# Altium integrated library Analog Devices Operational Amplifiers.IntLib: 2102 symbols (part 52 of 70)
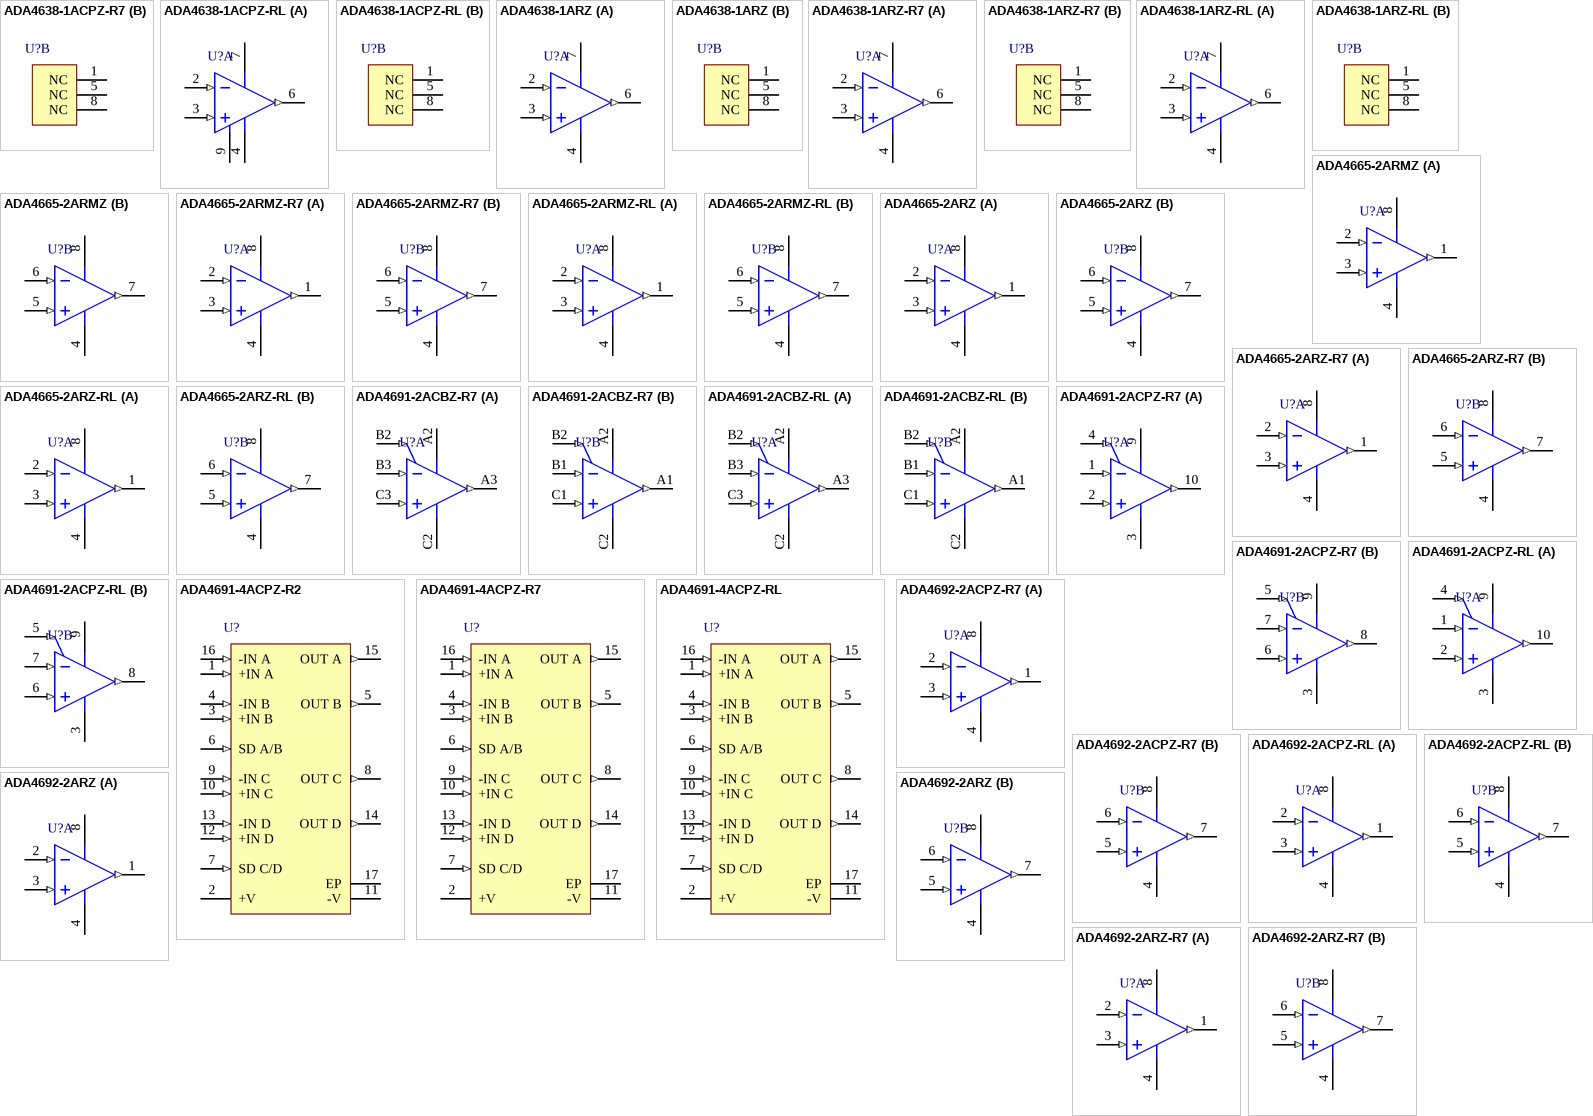
[diagram p165: symbols ADA4638-1ACPZ-R7 to ADA4692-2ARZ-R7]

## ADA4691-4ACPZ-R2
designator U?
Quad Channel Low Power Operational Amplifier, 3.6 MHz BW, 1.3 V/us SR, Industrial, 16-pin QFN (CP-16-22), Reel; Generic Part Number: ADA4691-4; Manufacturer: Analog Devices; PartNumber: ADA4691-4ACPZ-R2; Amplifiers Per Package: 4; Input Bias Current: 500fA; Input Offset Voltage: 500uV; Iq/Amp: 180uA; Packing: Reel, 250; Small Signal Bandwidth: 3.6MHz; V Span Max: 5V; V Span Min: 2.7V; DatasheetVersion: Rev. D; PackageVersion: 08-16-2010-E; PackageReference: CP-16-22; PackageDescription: 16-Pin Lead Frame Chip Scale Package, Body 3 x 3 mm, Pitch 0.5 mm; Supplier 1: Digi-Key; Supplier Part Number 1: ADA4691-4ACPZ-R2TR-ND; Supplier 2: Digi-Key; Supplier Part Number 2: ADA4691-4ACPZ-R2CT-ND; Supplier 3: Digi-Key; Supplier Part Number 3: ADA4691-4ACPZ-R2DKR-ND; Supplier 4: Farnell; Supplier Part Number 4: 1786682; Slew Rate: 1.3V/us; Mounting Technology: Surface Mount; Code_JEDEC: MO-220-WEED-6; ComponentLink1Description: Manufacturer URL; ComponentLink1URL: http://www.analog.com/en/index.html; ComponentLink2Description: Datasheet; ComponentLink2URL: http://www.analog.com/static/imported-files/data_sheets/ADA4691-2_4691-4_4692-2_4692-4.pdf; ComponentLink3Description: Package Specification; ComponentLink3URL: http://www.analog.com/static/imported-files/packages/PKG_PDF/LFCSP(CP)/CP-16/CP_16_22.pdf
footprint ADI-CP-16-22_N (QFN, 16-Leads, Body 3x3mm, Pitch 0.5mm, Thermal Pad 1.6x1.6mm, IPC Medium Density)
footprint ADI-CP-16-22_L (QFN, 16-Leads, Body 3x3mm, Pitch 0.5mm, Thermal Pad 1.6x1.6mm, IPC High Density)
footprint ADI-CP-16-22_M (QFN, 16-Leads, Body 3x3mm, Pitch 0.5mm, Thermal Pad 1.6x1.6mm, IPC Low Density)
pins: 1 +IN A (in), 2 +V (power), 3 +IN B (in), 4 -IN B (in), 5 OUT B (out), 6 SD A/B (in), 7 SD C/D (in), 8 OUT C (out), 9 -IN C (in), 10 +IN C (in), 11 -V (power), 12 +IN D (in), 13 -IN D (in), 14 OUT D (out), 15 OUT A (out), 16 -IN A (in), 17 EP (power) "IT IS RECOMMENDED THAT THE EXPOSEDPAD BE CONNCECTEDTO V-."

## ADA4691-4ACPZ-R7
designator U?
Quad Channel Low Power Operational Amplifier, 3.6 MHz BW, 1.3 V/us SR, Industrial, 16-pin QFN (CP-16-22), Reel; Generic Part Number: ADA4691-4; Manufacturer: Analog Devices; PartNumber: ADA4691-4ACPZ-R7; Amplifiers Per Package: 4; Input Bias Current: 500fA; Input Offset Voltage: 500uV; Iq/Amp: 180uA; Small Signal Bandwidth: 3.6MHz; V Span Max: 5V; V Span Min: 2.7V; DatasheetVersion: Rev. D; PackageVersion: 08-16-2010-E; PackageReference: CP-16-22; PackageDescription: 16-Pin Lead Frame Chip Scale Package, Body 3 x 3 mm, Pitch 0.5 mm; Supplier 1: Digi-Key; Supplier Part Number 1: ADA4691-4ACPZ-R7-ND; Supplier 2: Farnell; Supplier Part Number 2: 1827382; Supplier 3: Newark; Supplier Part Number 3: 58R3858; Packing: Reel, 1500; Slew Rate: 1.3V/us; Mounting Technology: Surface Mount; Code_JEDEC: MO-220-WEED-6; ComponentLink1Description: Manufacturer URL; ComponentLink1URL: http://www.analog.com/en/index.html; ComponentLink2Description: Datasheet; ComponentLink2URL: http://www.analog.com/static/imported-files/data_sheets/ADA4691-2_4691-4_4692-2_4692-4.pdf; ComponentLink3Description: Package Specification; ComponentLink3URL: http://www.analog.com/static/imported-files/packages/PKG_PDF/LFCSP(CP)/CP-16/CP_16_22.pdf
footprint ADI-CP-16-22_N (QFN, 16-Leads, Body 3x3mm, Pitch 0.5mm, Thermal Pad 1.6x1.6mm, IPC Medium Density)
footprint ADI-CP-16-22_L (QFN, 16-Leads, Body 3x3mm, Pitch 0.5mm, Thermal Pad 1.6x1.6mm, IPC High Density)
footprint ADI-CP-16-22_M (QFN, 16-Leads, Body 3x3mm, Pitch 0.5mm, Thermal Pad 1.6x1.6mm, IPC Low Density)
pins: 1 +IN A (in), 2 +V (power), 3 +IN B (in), 4 -IN B (in), 5 OUT B (out), 6 SD A/B (in), 7 SD C/D (in), 8 OUT C (out), 9 -IN C (in), 10 +IN C (in), 11 -V (power), 12 +IN D (in), 13 -IN D (in), 14 OUT D (out), 15 OUT A (out), 16 -IN A (in), 17 EP (power) "IT IS RECOMMENDED THAT THE EXPOSEDPAD BE CONNCECTEDTO V-."

## ADA4691-4ACPZ-RL
designator U?
Quad Channel Low Power Operational Amplifier, 3.6 MHz BW, 1.3 V/us SR, Industrial, 16-pin QFN (CP-16-22), Reel; Generic Part Number: ADA4691-4; Manufacturer: Analog Devices; PartNumber: ADA4691-4ACPZ-RL; Amplifiers Per Package: 4; Input Bias Current: 500fA; Input Offset Voltage: 500uV; Iq/Amp: 180uA; Small Signal Bandwidth: 3.6MHz; V Span Max: 5V; V Span Min: 2.7V; DatasheetVersion: Rev. D; PackageVersion: 08-16-2010-E; PackageReference: CP-16-22; PackageDescription: 16-Pin Lead Frame Chip Scale Package, Body 3 x 3 mm, Pitch 0.5 mm; Supplier 1: Digi-Key; Supplier Part Number 1: ADA4691-4ACPZ-RL-ND; Supplier 2: Newark; Supplier Part Number 2: 58R3856; Packing: Reel, 5000; Slew Rate: 1.3V/us; Mounting Technology: Surface Mount; Code_JEDEC: MO-220-WEED-6; ComponentLink1Description: Manufacturer URL; ComponentLink1URL: http://www.analog.com/en/index.html; ComponentLink2Description: Datasheet; ComponentLink2URL: http://www.analog.com/static/imported-files/data_sheets/ADA4691-2_4691-4_4692-2_4692-4.pdf; ComponentLink3Description: Package Specification; ComponentLink3URL: http://www.analog.com/static/imported-files/packages/PKG_PDF/LFCSP(CP)/CP-16/CP_16_22.pdf
footprint ADI-CP-16-22_N (QFN, 16-Leads, Body 3x3mm, Pitch 0.5mm, Thermal Pad 1.6x1.6mm, IPC Medium Density)
footprint ADI-CP-16-22_L (QFN, 16-Leads, Body 3x3mm, Pitch 0.5mm, Thermal Pad 1.6x1.6mm, IPC High Density)
footprint ADI-CP-16-22_M (QFN, 16-Leads, Body 3x3mm, Pitch 0.5mm, Thermal Pad 1.6x1.6mm, IPC Low Density)
pins: 1 +IN A (in), 2 +V (power), 3 +IN B (in), 4 -IN B (in), 5 OUT B (out), 6 SD A/B (in), 7 SD C/D (in), 8 OUT C (out), 9 -IN C (in), 10 +IN C (in), 11 -V (power), 12 +IN D (in), 13 -IN D (in), 14 OUT D (out), 15 OUT A (out), 16 -IN A (in), 17 EP (power) "IT IS RECOMMENDED THAT THE EXPOSEDPAD BE CONNCECTEDTO V-."

## ADA4692-2ACPZ-R7
designator U?
Double Channel Low Power Operational Amplifier, 3.6 MHz BW, 1.3 V/us SR, Industrial, 8-pin SON (CP-8-6), Reel; Generic Part Number: ADA4692-2; Manufacturer: Analog Devices; PartNumber: ADA4692-2ACPZ-R7; Amplifiers Per Package: 2; Input Bias Current: 500fA; Input Offset Voltage: 500uV; Iq/Amp: 180uA; Small Signal Bandwidth: 3.6MHz; V Span Max: 5V; V Span Min: 2.7V; DatasheetVersion: Rev. D; PackageVersion: 041508-A; PackageReference: CP-8-6; PackageDescription: 8-Pin Lead Frame Chip Scale Package, Body 2 x 2 mm, Pitch 0.5 mm; Supplier 1: Digi-Key; Supplier Part Number 1: ADA4692-2ACPZ-R7TR-ND; Supplier 2: Digi-Key; Supplier Part Number 2: ADA4692-2ACPZ-R7CT-ND; Supplier 3: Digi-Key; Supplier Part Number 3: ADA4692-2ACPZ-R7DKR-ND; Supplier 4: Newark; Supplier Part Number 4: 26R2409; Slew Rate: 1.3V/us; Mounting Technology: Surface Mount; ComponentLink1Description: Manufacturer URL; ComponentLink1URL: http://www.analog.com/en/index.html; ComponentLink2Description: Datasheet; ComponentLink2URL: http://www.analog.com/static/imported-files/data_sheets/ADA4691-2_4691-4_4692-2_4692-4.pdf; ComponentLink3Description: Package Specification; ComponentLink3URL: http://www.analog.com/static/imported-files/packages/PKG_PDF/LFCSP(CP)/CP_8_6.pdf
footprint ADI-CP-8-6_V (SON, 8-Leads, Body 2x2mm, Pitch 0.5mm)
pins on every part: 4 -V (power), 8 +V (power)
part A pins: 1 OUT A (out), 2 -IN A (in), 3 +IN A (in)
part B pins: 5 +IN B (in), 6 -IN B (in), 7 OUT B (out)

## ADA4692-2ACPZ-RL
designator U?
Double Channel Low Power Operational Amplifier, 3.6 MHz BW, 1.3 V/us SR, Industrial, 8-pin SON (CP-8-6), Reel; Generic Part Number: ADA4692-2; Manufacturer: Analog Devices; PartNumber: ADA4692-2ACPZ-RL; Amplifiers Per Package: 2; Input Bias Current: 500fA; Input Offset Voltage: 500uV; Iq/Amp: 180uA; Small Signal Bandwidth: 3.6MHz; V Span Max: 5V; V Span Min: 2.7V; DatasheetVersion: Rev. D; PackageVersion: 041508-A; PackageReference: CP-8-6; PackageDescription: 8-Pin Lead Frame Chip Scale Package, Body 2 x 2 mm, Pitch 0.5 mm; Supplier 1: Digi-Key; Supplier Part Number 1: ADA4692-2ACPZ-RL-ND; Supplier 2: Newark; Supplier Part Number 2: 26R2407; Slew Rate: 1.3V/us; Mounting Technology: Surface Mount; ComponentLink1Description: Manufacturer URL; ComponentLink1URL: http://www.analog.com/en/index.html; ComponentLink2Description: Datasheet; ComponentLink2URL: http://www.analog.com/static/imported-files/data_sheets/ADA4691-2_4691-4_4692-2_4692-4.pdf; ComponentLink3Description: Package Specification; ComponentLink3URL: http://www.analog.com/static/imported-files/packages/PKG_PDF/LFCSP(CP)/CP_8_6.pdf
footprint ADI-CP-8-6_V (SON, 8-Leads, Body 2x2mm, Pitch 0.5mm)
pins on every part: 4 -V (power), 8 +V (power)
part A pins: 1 OUT A (out), 2 -IN A (in), 3 +IN A (in)
part B pins: 5 +IN B (in), 6 -IN B (in), 7 OUT B (out)

## ADA4692-2ARZ
designator U?
Double Channel Low Power Operational Amplifier, 3.6 MHz BW, 1.3 V/us SR, Industrial, 8-pin SOIC (R-8), Tube; Generic Part Number: ADA4692-2; Manufacturer: Analog Devices; PartNumber: ADA4692-2ARZ; Amplifiers Per Package: 2; Input Bias Current: 500fA; Input Offset Voltage: 500uV; Iq/Amp: 180uA; Small Signal Bandwidth: 3.6MHz; V Span Max: 5V; V Span Min: 2.7V; DatasheetVersion: Rev. D; PackageVersion: 060506-A; PackageReference: R-8; PackageDescription: 8-Pin Standard Small Outline Package, Body 3.9 x 4.9 mm, Pitch 1.27 mm; Supplier 1: Digi-Key; Supplier Part Number 1: ADA4692-2ARZ-ND; Supplier 2: Farnell; Supplier Part Number 2: 1827383; Supplier 3: Newark; Supplier Part Number 3: 05R6523; Slew Rate: 1.3V/us; Mounting Technology: Surface Mount; Code_JEDEC: MS-012-AA; ComponentLink1Description: Manufacturer URL; ComponentLink1URL: http://www.analog.com/en/index.html; ComponentLink2Description: Datasheet; ComponentLink2URL: http://www.analog.com/static/imported-files/data_sheets/ADA4691-2_4691-4_4692-2_4692-4.pdf; ComponentLink3Description: Package Specification; ComponentLink3URL: http://www.analog.com/static/imported-files/packages/PKG_PDF/SOIC_Narrow%20(R)/R_8.pdf
footprint ADI-R-8_N (SOIC, 8-Leads, Body 4.9x3.9mm, Pitch 1.27mm, IPC Medium Density)
footprint ADI-R-8_L (SOIC, 8-Leads, Body 4.9x3.9mm, Pitch 1.27mm, IPC High Density)
footprint ADI-R-8_M (SOIC, 8-Leads, Body 4.9x3.9mm, Pitch 1.27mm, IPC Low Density)
pins on every part: 4 -V (power), 8 +V (power)
part A pins: 1 OUT A (out), 2 -IN A (in), 3 +IN A (in)
part B pins: 5 +IN B (in), 6 -IN B (in), 7 OUT B (out)

## ADA4692-2ARZ-R7
designator U?
Double Channel Low Power Operational Amplifier, 3.6 MHz BW, 1.3 V/us SR, Industrial, 8-pin SOIC (R-8), Reel; Generic Part Number: ADA4692-2; Manufacturer: Analog Devices; PartNumber: ADA4692-2ARZ-R7; Amplifiers Per Package: 2; Input Bias Current: 500fA; Input Offset Voltage: 500uV; Iq/Amp: 180uA; Small Signal Bandwidth: 3.6MHz; V Span Max: 5V; V Span Min: 2.7V; DatasheetVersion: Rev. D; PackageVersion: 060506-A; PackageReference: R-8; PackageDescription: 8-Pin Standard Small Outline Package, Body 3.9 x 4.9 mm, Pitch 1.27 mm; Supplier 1: Digi-Key; Supplier Part Number 1: ADA4692-2ARZ-R7TR-ND; Supplier 2: Digi-Key; Supplier Part Number 2: ADA4692-2ARZ-R7CT-ND; Supplier 3: Digi-Key; Supplier Part Number 3: ADA4692-2ARZ-R7DKR-ND; Supplier 4: Newark; Supplier Part Number 4: 05R6525; Slew Rate: 1.3V/us; Mounting Technology: Surface Mount; Code_JEDEC: MS-012-AA; ComponentLink1Description: Manufacturer URL; ComponentLink1URL: http://www.analog.com/en/index.html; ComponentLink2Description: Datasheet; ComponentLink2URL: http://www.analog.com/static/imported-files/data_sheets/ADA4691-2_4691-4_4692-2_4692-4.pdf; ComponentLink3Description: Package Specification; ComponentLink3URL: http://www.analog.com/static/imported-files/packages/PKG_PDF/SOIC_Narrow%20(R)/R_8.pdf
footprint ADI-R-8_N (SOIC, 8-Leads, Body 4.9x3.9mm, Pitch 1.27mm, IPC Medium Density)
footprint ADI-R-8_L (SOIC, 8-Leads, Body 4.9x3.9mm, Pitch 1.27mm, IPC High Density)
footprint ADI-R-8_M (SOIC, 8-Leads, Body 4.9x3.9mm, Pitch 1.27mm, IPC Low Density)
pins on every part: 4 -V (power), 8 +V (power)
part A pins: 1 OUT A (out), 2 -IN A (in), 3 +IN A (in)
part B pins: 5 +IN B (in), 6 -IN B (in), 7 OUT B (out)

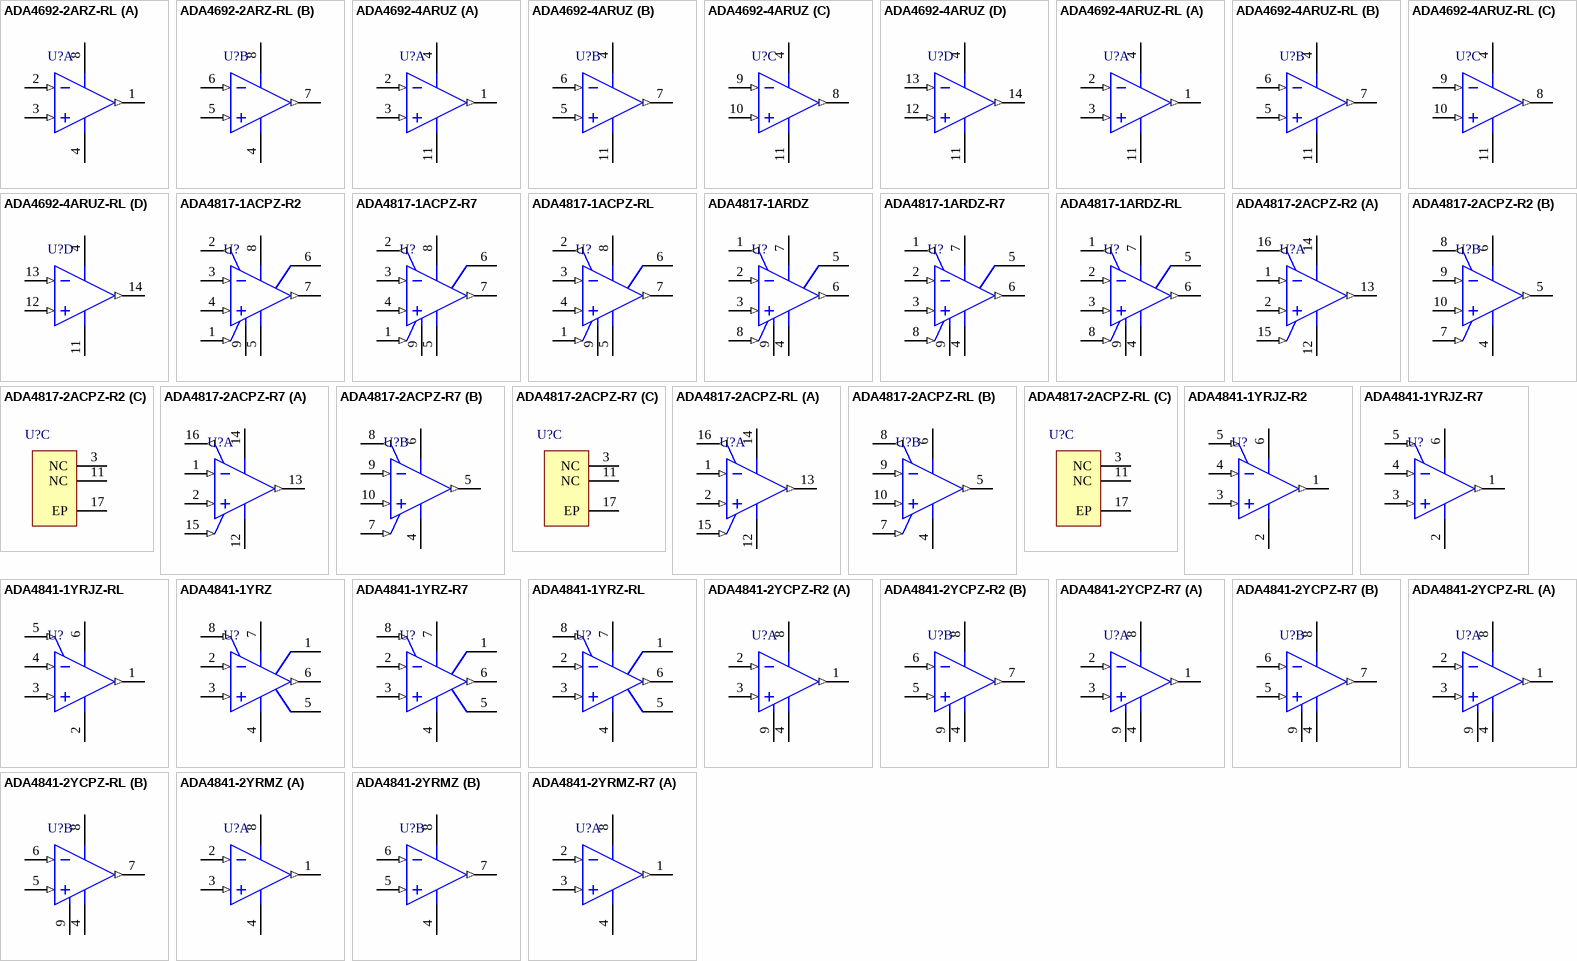
[diagram p82: symbols ADA4692-2ARZ-RL to ADA4841-2YRMZ-R7]

## ADA4692-2ARZ-RL
designator U?
Double Channel Low Power Operational Amplifier, 3.6 MHz BW, 1.3 V/us SR, Industrial, 8-pin SOIC (R-8), Reel; Generic Part Number: ADA4692-2; Manufacturer: Analog Devices; PartNumber: ADA4692-2ARZ-RL; Amplifiers Per Package: 2; Input Bias Current: 500fA; Input Offset Voltage: 500uV; Iq/Amp: 180uA; Small Signal Bandwidth: 3.6MHz; V Span Max: 5V; V Span Min: 2.7V; DatasheetVersion: Rev. D; PackageVersion: 060506-A; PackageReference: R-8; PackageDescription: 8-Pin Standard Small Outline Package, Body 3.9 x 4.9 mm, Pitch 1.27 mm; Supplier 1: Digi-Key; Supplier Part Number 1: ADA4692-2ARZ-RL-ND; Slew Rate: 1.3V/us; Mounting Technology: Surface Mount; Code_JEDEC: MS-012-AA; ComponentLink1Description: Manufacturer URL; ComponentLink1URL: http://www.analog.com/en/index.html; ComponentLink2Description: Datasheet; ComponentLink2URL: http://www.analog.com/static/imported-files/data_sheets/ADA4691-2_4691-4_4692-2_4692-4.pdf; ComponentLink3Description: Package Specification; ComponentLink3URL: http://www.analog.com/static/imported-files/packages/PKG_PDF/SOIC_Narrow%20(R)/R_8.pdf
footprint ADI-R-8_N (SOIC, 8-Leads, Body 4.9x3.9mm, Pitch 1.27mm, IPC Medium Density)
footprint ADI-R-8_L (SOIC, 8-Leads, Body 4.9x3.9mm, Pitch 1.27mm, IPC High Density)
footprint ADI-R-8_M (SOIC, 8-Leads, Body 4.9x3.9mm, Pitch 1.27mm, IPC Low Density)
pins on every part: 4 -V (power), 8 +V (power)
part A pins: 1 OUT A (out), 2 -IN A (in), 3 +IN A (in)
part B pins: 5 +IN B (in), 6 -IN B (in), 7 OUT B (out)

## ADA4692-4ARUZ
designator U?
Quad Channel Low Power Operational Amplifier, 3.6 MHz BW, 1.3 V/us SR, Industrial, 14-pin SOP (RU-14), Tube; Generic Part Number: ADA4692-4; Manufacturer: Analog Devices; PartNumber: ADA4692-4ARUZ; Amplifiers Per Package: 4; Input Bias Current: 500fA; Input Offset Voltage: 500uV; Iq/Amp: 180uA; Small Signal Bandwidth: 3.6MHz; V Span Max: 5V; V Span Min: 2.7V; DatasheetVersion: Rev. D; PackageReference: RU-14; PackageDescription: 14-Pin Thin Shrink Small Outline Package, Body 5 x 4.4 mm, Pitch 0.65 mm; Supplier 1: Digi-Key; Supplier Part Number 1: ADA4692-4ARUZ-ND; Supplier 2: Farnell; Supplier Part Number 2: 1827393RL; Supplier 3: Newark; Supplier Part Number 3: 51R0647; Slew Rate: 1.3V/us; Mounting Technology: Surface Mount; Code_JEDEC: MO-153AB-1; ComponentLink1Description: Manufacturer URL; ComponentLink1URL: http://www.analog.com/en/index.html; ComponentLink2Description: Datasheet; ComponentLink2URL: http://www.analog.com/static/imported-files/data_sheets/ADA4691-2_4691-4_4692-2_4692-4.pdf; ComponentLink3Description: Package Specification; ComponentLink3URL: http://www.analog.com/static/imported-files/packages/36057385283879153717235186773RU14.pdf
footprint ADI-RU-14_N (SOP, 14-Leads, Body 5x4.4mm, Pitch 0.65mm, IPC Medium Density)
footprint ADI-RU-14_L (SOP, 14-Leads, Body 5x4.4mm, Pitch 0.65mm, IPC High Density)
footprint ADI-RU-14_M (SOP, 14-Leads, Body 5x4.4mm, Pitch 0.65mm, IPC Low Density)
pins on every part: 4 +V (power), 11 -V (power)
part A pins: 1 OUT A (out), 2 -IN A (in), 3 +IN A (in)
part B pins: 5 +IN B (in), 6 -IN B (in), 7 OUT B (out)
part C pins: 8 OUT C (out), 9 -IN C (in), 10 +IN C (in)
part D pins: 12 +IN D (in), 13 -IN D (in), 14 OUT D (out)

## ADA4692-4ARUZ-RL
designator U?
Quad Channel Low Power Operational Amplifier, 3.6 MHz BW, 1.3 V/us SR, Industrial, 14-pin SOP (RU-14), Reel; Generic Part Number: ADA4692-4; Manufacturer: Analog Devices; PartNumber: ADA4692-4ARUZ-RL; Amplifiers Per Package: 4; Input Bias Current: 500fA; Input Offset Voltage: 500uV; Iq/Amp: 180uA; Small Signal Bandwidth: 3.6MHz; V Span Max: 5V; V Span Min: 2.7V; DatasheetVersion: Rev. D; PackageReference: RU-14; PackageDescription: 14-Pin Thin Shrink Small Outline Package, Body 5 x 4.4 mm, Pitch 0.65 mm; Supplier 1: Digi-Key; Supplier Part Number 1: ADA4692-4ARUZ-RL-ND; Slew Rate: 1.3V/us; Mounting Technology: Surface Mount; Code_JEDEC: MO-153AB-1; ComponentLink1Description: Manufacturer URL; ComponentLink1URL: http://www.analog.com/en/index.html; ComponentLink2Description: Datasheet; ComponentLink2URL: http://www.analog.com/static/imported-files/data_sheets/ADA4691-2_4691-4_4692-2_4692-4.pdf; ComponentLink3Description: Package Specification; ComponentLink3URL: http://www.analog.com/static/imported-files/packages/36057385283879153717235186773RU14.pdf
footprint ADI-RU-14_N (SOP, 14-Leads, Body 5x4.4mm, Pitch 0.65mm, IPC Medium Density)
footprint ADI-RU-14_L (SOP, 14-Leads, Body 5x4.4mm, Pitch 0.65mm, IPC High Density)
footprint ADI-RU-14_M (SOP, 14-Leads, Body 5x4.4mm, Pitch 0.65mm, IPC Low Density)
pins on every part: 4 +V (power), 11 -V (power)
part A pins: 1 OUT A (out), 2 -IN A (in), 3 +IN A (in)
part B pins: 5 +IN B (in), 6 -IN B (in), 7 OUT B (out)
part C pins: 8 OUT C (out), 9 -IN C (in), 10 +IN C (in)
part D pins: 12 +IN D (in), 13 -IN D (in), 14 OUT D (out)

## ADA4817-1ACPZ-R2
designator U?
Single Channel Low Noise Operational Amplifier, 1.05 GHz BW, 870 V/us SR, Industrial, 8-pin QFN (CP-8-2), Reel; Generic Part Number: ADA4817-1; Manufacturer: Analog Devices; PartNumber: ADA4817-1ACPZ-R2; Amplifiers Per Package: 1; Input Bias Current: 2pA; Input Offset Voltage: 2mV; Iq/Amp: 21mA; V Span Max: 10V; V Span Min: 5V; DatasheetVersion: Rev. A; PackageVersion: 061507-B; PackageReference: CP-8-2; PackageDescription: 8-Pin Lead Frame Chip Scale Package, Body 3 x 3 mm, Pitch 0.5 mm; Supplier 1: Farnell; Supplier Part Number 1: 1786053; Supplier 2: Farnell; Supplier Part Number 2: 1786053RL; Supplier 3: Newark; Supplier Part Number 3: 34P2968; Slew Rate: 870V/us; Small Signal Bandwidth: 1.05GHz; Mounting Technology: Surface Mount; ComponentLink1Description: Manufacturer URL; ComponentLink1URL: http://www.analog.com/en/index.html; ComponentLink2Description: Datasheet; ComponentLink2URL: http://www.analog.com/static/imported-files/data_sheets/ADA4817-1_4817-2.pdf; ComponentLink3Description: Package Specification; ComponentLink3URL: http://www.analog.com/static/imported-files/packages/56953322593982CP_8_2.pdf
footprint ADI-CP-8-2_N (QFN, 8-Leads, Body 3x3mm, Pitch 0.5mm, Thermal Pad 1.45X1.74mm, IPC Medium Density)
footprint ADI-CP-8-2_L (QFN, 8-Leads, Body 3x3mm, Pitch 0.5mm, Thermal Pad 1.45X1.74mm, IPC High Density)
footprint ADI-CP-8-2_M (QFN, 8-Leads, Body 3x3mm, Pitch 0.5mm, Thermal Pad 1.45X1.74mm, IPC Low Density)
pins: 1 ~{PD} (in) "Power-Down. Do not leave floating.", 2 FB (out) "Feedback Pin.", 3 -IN (in) "Inverting Input.", 4 +IN (in) "Noninverting Input.", 5 -VS (power) "Negative Supply.", 6 NC "No Connect.", 7 OUT (out) "Output.", 8 +VS (power) "Positive Supply.", 9 EP "Exposed Pad. Can be connected to GND, -VS plane, or left floating."

## ADA4817-1ACPZ-R7
designator U?
Single Channel Low Noise Operational Amplifier, 1.05 GHz BW, 870 V/us SR, Industrial, 8-pin QFN (CP-8-2), Reel; Generic Part Number: ADA4817-1; Manufacturer: Analog Devices; PartNumber: ADA4817-1ACPZ-R7; Amplifiers Per Package: 1; Input Bias Current: 2pA; Input Offset Voltage: 2mV; Iq/Amp: 21mA; V Span Max: 10V; V Span Min: 5V; DatasheetVersion: Rev. A; PackageVersion: 061507-B; PackageReference: CP-8-2; PackageDescription: 8-Pin Lead Frame Chip Scale Package, Body 3 x 3 mm, Pitch 0.5 mm; Supplier 1: Digi-Key; Supplier Part Number 1: ADA4817-1ACPZ-R7TR-ND; Supplier 2: Digi-Key; Supplier Part Number 2: ADA4817-1ACPZ-R7CT-ND; Supplier 3: Digi-Key; Supplier Part Number 3: ADA4817-1ACPZ-R7DKR-ND; Supplier 4: Newark; Supplier Part Number 4: 34P2969; Slew Rate: 870V/us; Small Signal Bandwidth: 1.05GHz; Mounting Technology: Surface Mount; ComponentLink1Description: Manufacturer URL; ComponentLink1URL: http://www.analog.com/en/index.html; ComponentLink2Description: Datasheet; ComponentLink2URL: http://www.analog.com/static/imported-files/data_sheets/ADA4817-1_4817-2.pdf; ComponentLink3Description: Package Specification; ComponentLink3URL: http://www.analog.com/static/imported-files/packages/56953322593982CP_8_2.pdf
footprint ADI-CP-8-2_N (QFN, 8-Leads, Body 3x3mm, Pitch 0.5mm, Thermal Pad 1.45X1.74mm, IPC Medium Density)
footprint ADI-CP-8-2_L (QFN, 8-Leads, Body 3x3mm, Pitch 0.5mm, Thermal Pad 1.45X1.74mm, IPC High Density)
footprint ADI-CP-8-2_M (QFN, 8-Leads, Body 3x3mm, Pitch 0.5mm, Thermal Pad 1.45X1.74mm, IPC Low Density)
pins: 1 ~{PD} (in) "Power-Down. Do not leave floating.", 2 FB (out) "Feedback Pin.", 3 -IN (in) "Inverting Input.", 4 +IN (in) "Noninverting Input.", 5 -VS (power) "Negative Supply.", 6 NC "No Connect.", 7 OUT (out) "Output.", 8 +VS (power) "Positive Supply.", 9 EP "Exposed Pad. Can be connected to GND, -VS plane, or left floating."

## ADA4817-1ACPZ-RL
designator U?
Single Channel Low Noise Operational Amplifier, 1.05 GHz BW, 870 V/us SR, Industrial, 8-pin QFN (CP-8-2), Reel; Generic Part Number: ADA4817-1; Manufacturer: Analog Devices; PartNumber: ADA4817-1ACPZ-RL; Amplifiers Per Package: 1; Input Bias Current: 2pA; Input Offset Voltage: 2mV; Iq/Amp: 21mA; V Span Max: 10V; V Span Min: 5V; DatasheetVersion: Rev. A; PackageVersion: 061507-B; PackageReference: CP-8-2; PackageDescription: 8-Pin Lead Frame Chip Scale Package, Body 3 x 3 mm, Pitch 0.5 mm; Supplier 1: Digi-Key; Supplier Part Number 1: ADA4817-1ACPZ-RL-ND; Slew Rate: 870V/us; Small Signal Bandwidth: 1.05GHz; Mounting Technology: Surface Mount; ComponentLink1Description: Manufacturer URL; ComponentLink1URL: http://www.analog.com/en/index.html; ComponentLink2Description: Datasheet; ComponentLink2URL: http://www.analog.com/static/imported-files/data_sheets/ADA4817-1_4817-2.pdf; ComponentLink3Description: Package Specification; ComponentLink3URL: http://www.analog.com/static/imported-files/packages/56953322593982CP_8_2.pdf
footprint ADI-CP-8-2_N (QFN, 8-Leads, Body 3x3mm, Pitch 0.5mm, Thermal Pad 1.45X1.74mm, IPC Medium Density)
footprint ADI-CP-8-2_L (QFN, 8-Leads, Body 3x3mm, Pitch 0.5mm, Thermal Pad 1.45X1.74mm, IPC High Density)
footprint ADI-CP-8-2_M (QFN, 8-Leads, Body 3x3mm, Pitch 0.5mm, Thermal Pad 1.45X1.74mm, IPC Low Density)
pins: 1 ~{PD} (in) "Power-Down. Do not leave floating.", 2 FB (out) "Feedback Pin.", 3 -IN (in) "Inverting Input.", 4 +IN (in) "Noninverting Input.", 5 -VS (power) "Negative Supply.", 6 NC "No Connect.", 7 OUT (out) "Output.", 8 +VS (power) "Positive Supply.", 9 EP "Exposed Pad. Can be connected to GND, -VS plane, or left floating."

## ADA4817-1ARDZ
designator U?
Single Channel Low Noise Operational Amplifier, 1.05 GHz BW, 870 V/us SR, Industrial, 8-pin SOIC (RD-8-1), Tube; Generic Part Number: ADA4817-1; Manufacturer: Analog Devices; PartNumber: ADA4817-1ARDZ; Amplifiers Per Package: 1; Input Bias Current: 2pA; Input Offset Voltage: 2mV; Iq/Amp: 21mA; V Span Max: 10V; V Span Min: 5V; DatasheetVersion: Rev. A; PackageVersion: 060506-A; PackageReference: RD-8-1; PackageDescription: 8-Pin Standard Small Outline Package, Body 4.9 x 3.9 mm, Pitch 1.27 mm; Supplier 1: Digi-Key; Supplier Part Number 1: ADA4817-1ARDZ-ND; Supplier 2: Farnell; Supplier Part Number 2: 1786054; Supplier 3: Newark; Supplier Part Number 3: 71P7793; Slew Rate: 870V/us; Small Signal Bandwidth: 1.05GHz; Mounting Technology: Surface Mount; Code_JEDEC: MS-012-AA; ComponentLink1Description: Manufacturer URL; ComponentLink1URL: http://www.analog.com/en/index.html; ComponentLink2Description: Datasheet; ComponentLink2URL: http://www.analog.com/static/imported-files/data_sheets/ADA4817-1_4817-2.pdf; ComponentLink3Description: Package Specification; ComponentLink3URL: http://www.analog.com/static/imported-files/packages/PKG_PDF/SOIC_ED(RD)/RD_8_1.pdf
footprint ADI-RD-8-1_N (SOIC, 8-Leads, Body 4.9x3.9mm, Pitch 1.27mm, Thermal Pad 2.29x2.29mm, IPC Medium Density)
footprint ADI-RD-8-1_L (SOIC, 8-Leads, Body 4.9x3.9mm, Pitch 1.27mm, Thermal Pad 2.29x2.29mm, IPC High Density)
footprint ADI-RD-8-1_M (SOIC, 8-Leads, Body 4.9x3.9mm, Pitch 1.27mm, Thermal Pad 2.29x2.29mm, IPC Low Density)
pins: 1 FB (out) "Feedback Pin.", 2 -IN (in) "Inverting Input.", 3 +IN (in) "Noninverting Input.", 4 -VS (power) "Negative Supply.", 5 NC "No Connect.", 6 OUT (out) "Output.", 7 +VS (power) "Positive Supply.", 8 ~{PD} (in) "Power-Down. Do not leave floating.", 9 EP "Exposed Pad. Can be connected to GND, -VS plane, or left floating."

## ADA4817-1ARDZ-R7
designator U?
Single Channel Low Noise Operational Amplifier, 1.05 GHz BW, 870 V/us SR, Industrial, 8-pin SOIC (RD-8-1), Reel; Generic Part Number: ADA4817-1; Manufacturer: Analog Devices; PartNumber: ADA4817-1ARDZ-R7; Amplifiers Per Package: 1; Input Bias Current: 2pA; Input Offset Voltage: 2mV; Iq/Amp: 21mA; V Span Max: 10V; V Span Min: 5V; DatasheetVersion: Rev. A; PackageVersion: 060506-A; PackageReference: RD-8-1; PackageDescription: 8-Pin Standard Small Outline Package, Body 4.9 x 3.9 mm, Pitch 1.27 mm; Supplier 1: Digi-Key; Supplier Part Number 1: ADA4817-1ARDZ-R7TR-ND; Supplier 2: Digi-Key; Supplier Part Number 2: ADA4817-1ARDZ-R7CT-ND; Supplier 3: Digi-Key; Supplier Part Number 3: ADA4817-1ARDZ-R7DKR-ND; Slew Rate: 870V/us; Small Signal Bandwidth: 1.05GHz; Mounting Technology: Surface Mount; Code_JEDEC: MS-012-AA; ComponentLink1Description: Manufacturer URL; ComponentLink1URL: http://www.analog.com/en/index.html; ComponentLink2Description: Datasheet; ComponentLink2URL: http://www.analog.com/static/imported-files/data_sheets/ADA4817-1_4817-2.pdf; ComponentLink3Description: Package Specification; ComponentLink3URL: http://www.analog.com/static/imported-files/packages/PKG_PDF/SOIC_ED(RD)/RD_8_1.pdf
footprint ADI-RD-8-1_N (SOIC, 8-Leads, Body 4.9x3.9mm, Pitch 1.27mm, Thermal Pad 2.29x2.29mm, IPC Medium Density)
footprint ADI-RD-8-1_L (SOIC, 8-Leads, Body 4.9x3.9mm, Pitch 1.27mm, Thermal Pad 2.29x2.29mm, IPC High Density)
footprint ADI-RD-8-1_M (SOIC, 8-Leads, Body 4.9x3.9mm, Pitch 1.27mm, Thermal Pad 2.29x2.29mm, IPC Low Density)
pins: 1 FB (out) "Feedback Pin.", 2 -IN (in) "Inverting Input.", 3 +IN (in) "Noninverting Input.", 4 -VS (power) "Negative Supply.", 5 NC "No Connect.", 6 OUT (out) "Output.", 7 +VS (power) "Positive Supply.", 8 ~{PD} (in) "Power-Down. Do not leave floating.", 9 EP "Exposed Pad. Can be connected to GND, -VS plane, or left floating."

## ADA4817-1ARDZ-RL
designator U?
Single Channel Low Noise Operational Amplifier, 1.05 GHz BW, 870 V/us SR, Industrial, 8-pin SOIC (RD-8-1), Reel; Generic Part Number: ADA4817-1; Manufacturer: Analog Devices; PartNumber: ADA4817-1ARDZ-RL; Amplifiers Per Package: 1; Input Bias Current: 2pA; Input Offset Voltage: 2mV; Iq/Amp: 21mA; V Span Max: 10V; V Span Min: 5V; DatasheetVersion: Rev. A; PackageVersion: 060506-A; PackageReference: RD-8-1; PackageDescription: 8-Pin Standard Small Outline Package, Body 4.9 x 3.9 mm, Pitch 1.27 mm; Supplier 1: Digi-Key; Supplier Part Number 1: ADA4817-1ARDZ-RL-ND; Slew Rate: 870V/us; Small Signal Bandwidth: 1.05GHz; Mounting Technology: Surface Mount; Code_JEDEC: MS-012-AA; ComponentLink1Description: Manufacturer URL; ComponentLink1URL: http://www.analog.com/en/index.html; ComponentLink2Description: Datasheet; ComponentLink2URL: http://www.analog.com/static/imported-files/data_sheets/ADA4817-1_4817-2.pdf; ComponentLink3Description: Package Specification; ComponentLink3URL: http://www.analog.com/static/imported-files/packages/PKG_PDF/SOIC_ED(RD)/RD_8_1.pdf
footprint ADI-RD-8-1_N (SOIC, 8-Leads, Body 4.9x3.9mm, Pitch 1.27mm, Thermal Pad 2.29x2.29mm, IPC Medium Density)
footprint ADI-RD-8-1_L (SOIC, 8-Leads, Body 4.9x3.9mm, Pitch 1.27mm, Thermal Pad 2.29x2.29mm, IPC High Density)
footprint ADI-RD-8-1_M (SOIC, 8-Leads, Body 4.9x3.9mm, Pitch 1.27mm, Thermal Pad 2.29x2.29mm, IPC Low Density)
pins: 1 FB (out) "Feedback Pin.", 2 -IN (in) "Inverting Input.", 3 +IN (in) "Noninverting Input.", 4 -VS (power) "Negative Supply.", 5 NC "No Connect.", 6 OUT (out) "Output.", 7 +VS (power) "Positive Supply.", 8 ~{PD} (in) "Power-Down. Do not leave floating.", 9 EP "Exposed Pad. Can be connected to GND, -VS plane, or left floating."

## ADA4817-2ACPZ-R2
designator U?
Double Channel Low Noise Operational Amplifier, 1.05 GHz BW, 870 V/us SR, Industrial, 16-pin QFN (CP-16-4), Reel; Generic Part Number: ADA4817-2; Manufacturer: Analog Devices; PartNumber: ADA4817-2ACPZ-R2; Amplifiers Per Package: 2; Input Bias Current: 2pA; Input Offset Voltage: 2mV; Iq/Amp: 21mA; V Span Max: 10V; V Span Min: 5V; DatasheetVersion: Rev. A; PackageVersion: 010606-0; PackageReference: CP-16-4; PackageDescription: 16-Pin Lead Frame Chip Scale Package, Body 4 x 4 mm, Pitch 0.65 mm; Supplier 1: Farnell; Supplier Part Number 1: 1786055; Supplier 2: Farnell; Supplier Part Number 2: 1786055RL; Supplier 3: Newark; Supplier Part Number 3: 34P2971; Slew Rate: 870V/us; Small Signal Bandwidth: 1.05GHz; Mounting Technology: Surface Mount; Code_JEDEC: MO-220-VGGC; ComponentLink1Description: Manufacturer URL; ComponentLink1URL: http://www.analog.com/en/index.html; ComponentLink2Description: Datasheet; ComponentLink2URL: http://www.analog.com/static/imported-files/data_sheets/ADA4817-1_4817-2.pdf; ComponentLink3Description: Package Specification; ComponentLink3URL: http://www.analog.com/static/imported-files/packages/46009454504174339653421710019CP_16_4.pdf; ComponentLink4Description: Reference Circuit; ComponentLink4URL: http://www.analog.com/en/all-operational-amplifiers-op-amps/operational-amplifiers-op-amps/ada4817-2/products/product.html#product-recommendations
footprint CP-16-4_N (QFN, 16-Leads, Body 4x4mm, Pitch 0.65mm, Thermal Pad 2.1x2.1mm, IPC Medium Density)
footprint CP-16-4_L (QFN, 16-Leads, Body 4x4mm, Pitch 0.65mm, Thermal Pad 2.1x2.1mm, IPC High Density)
footprint CP-16-4_M (QFN, 16-Leads, Body 4x4mm, Pitch 0.65mm, Thermal Pad 2.1x2.1mm, IPC Low Density)
part A pins: 1 -IN 1 (in) "Inverting Input 1.", 2 +IN 1 (in) "Noninverting Input 1.", 12 -VS 1 (power) "Negative Supply 1.", 13 OUT 1 (out) "Output 1.", 14 +VS 1 (power) "Positive Supply 1.", 15 ~{PD1} (in) "Power-Down 1. Do not leave floating.", 16 FB1 (out) "Feedback Pin 1."
part B pins: 4 -VS 2 (power) "Negative Supply 2.", 5 OUT 2 (out) "Output 2.", 6 +VS 2 (power) "Positive Supply 2.", 7 ~{PD2} (in) "Power-Down 2. Do not leave floating.", 8 FB2 (out) "Feedback Pin 2.", 9 -IN 2 (in) "Inverting Input 2.", 10 +IN 2 (in) "Noninverting Input 2."
part C pins: 3 NC "No Connect.", 11 NC "No Connect.", 17 EP "Exposed Pad. Can be connected to GND, -VS plane, or left floating."

## ADA4817-2ACPZ-R7
designator U?
Double Channel Low Noise Operational Amplifier, 1.05 GHz BW, 870 V/us SR, Industrial, 16-pin QFN (CP-16-4), Reel; Generic Part Number: ADA4817-2; Manufacturer: Analog Devices; PartNumber: ADA4817-2ACPZ-R7; Amplifiers Per Package: 2; Input Bias Current: 2pA; Input Offset Voltage: 2mV; Iq/Amp: 21mA; V Span Max: 10V; V Span Min: 5V; DatasheetVersion: Rev. A; PackageVersion: 010606-0; PackageReference: CP-16-4; PackageDescription: 16-Pin Lead Frame Chip Scale Package, Body 4 x 4 mm, Pitch 0.65 mm; Supplier 1: Digi-Key; Supplier Part Number 1: ADA4817-2ACPZ-R7TR-ND; Supplier 2: Digi-Key; Supplier Part Number 2: ADA4817-2ACPZ-R7CT-ND; Supplier 3: Digi-Key; Supplier Part Number 3: ADA4817-2ACPZ-R7DKR-ND; Supplier 4: Newark; Supplier Part Number 4: 34P2972; Slew Rate: 870V/us; Small Signal Bandwidth: 1.05GHz; Mounting Technology: Surface Mount; Code_JEDEC: MO-220-VGGC; ComponentLink1Description: Manufacturer URL; ComponentLink1URL: http://www.analog.com/en/index.html; ComponentLink2Description: Datasheet; ComponentLink2URL: http://www.analog.com/static/imported-files/data_sheets/ADA4817-1_4817-2.pdf; ComponentLink3Description: Package Specification; ComponentLink3URL: http://www.analog.com/static/imported-files/packages/46009454504174339653421710019CP_16_4.pdf; ComponentLink4Description: Reference Circuit; ComponentLink4URL: http://www.analog.com/en/all-operational-amplifiers-op-amps/operational-amplifiers-op-amps/ada4817-2/products/product.html#product-recommendations
footprint CP-16-4_N (QFN, 16-Leads, Body 4x4mm, Pitch 0.65mm, Thermal Pad 2.1x2.1mm, IPC Medium Density)
footprint CP-16-4_L (QFN, 16-Leads, Body 4x4mm, Pitch 0.65mm, Thermal Pad 2.1x2.1mm, IPC High Density)
footprint CP-16-4_M (QFN, 16-Leads, Body 4x4mm, Pitch 0.65mm, Thermal Pad 2.1x2.1mm, IPC Low Density)
part A pins: 1 -IN 1 (in) "Inverting Input 1.", 2 +IN 1 (in) "Noninverting Input 1.", 12 -VS 1 (power) "Negative Supply 1.", 13 OUT 1 (out) "Output 1.", 14 +VS 1 (power) "Positive Supply 1.", 15 ~{PD1} (in) "Power-Down 1. Do not leave floating.", 16 FB1 (out) "Feedback Pin 1."
part B pins: 4 -VS 2 (power) "Negative Supply 2.", 5 OUT 2 (out) "Output 2.", 6 +VS 2 (power) "Positive Supply 2.", 7 ~{PD2} (in) "Power-Down 2. Do not leave floating.", 8 FB2 (out) "Feedback Pin 2.", 9 -IN 2 (in) "Inverting Input 2.", 10 +IN 2 (in) "Noninverting Input 2."
part C pins: 3 NC "No Connect.", 11 NC "No Connect.", 17 EP "Exposed Pad. Can be connected to GND, -VS plane, or left floating."

## ADA4817-2ACPZ-RL
designator U?
Double Channel Low Noise Operational Amplifier, 1.05 GHz BW, 870 V/us SR, Industrial, 16-pin QFN (CP-16-4), Reel; Generic Part Number: ADA4817-2; Manufacturer: Analog Devices; PartNumber: ADA4817-2ACPZ-RL; Amplifiers Per Package: 2; Input Bias Current: 2pA; Input Offset Voltage: 2mV; Iq/Amp: 21mA; V Span Max: 10V; V Span Min: 5V; DatasheetVersion: Rev. A; PackageVersion: 010606-0; PackageReference: CP-16-4; PackageDescription: 16-Pin Lead Frame Chip Scale Package, Body 4 x 4 mm, Pitch 0.65 mm; Supplier 1: Digi-Key; Supplier Part Number 1: ADA4817-2ACPZ-RL-ND; Supplier 2: Newark; Supplier Part Number 2: 34P2970; Slew Rate: 870V/us; Small Signal Bandwidth: 1.05GHz; Mounting Technology: Surface Mount; Code_JEDEC: MO-220-VGGC; ComponentLink1Description: Manufacturer URL; ComponentLink1URL: http://www.analog.com/en/index.html; ComponentLink2Description: Datasheet; ComponentLink2URL: http://www.analog.com/static/imported-files/data_sheets/ADA4817-1_4817-2.pdf; ComponentLink3Description: Package Specification; ComponentLink3URL: http://www.analog.com/static/imported-files/packages/46009454504174339653421710019CP_16_4.pdf; ComponentLink4Description: Reference Circuit; ComponentLink4URL: http://www.analog.com/en/all-operational-amplifiers-op-amps/operational-amplifiers-op-amps/ada4817-2/products/product.html#product-recommendations
footprint CP-16-4_N (QFN, 16-Leads, Body 4x4mm, Pitch 0.65mm, Thermal Pad 2.1x2.1mm, IPC Medium Density)
footprint CP-16-4_L (QFN, 16-Leads, Body 4x4mm, Pitch 0.65mm, Thermal Pad 2.1x2.1mm, IPC High Density)
footprint CP-16-4_M (QFN, 16-Leads, Body 4x4mm, Pitch 0.65mm, Thermal Pad 2.1x2.1mm, IPC Low Density)
part A pins: 1 -IN 1 (in) "Inverting Input 1.", 2 +IN 1 (in) "Noninverting Input 1.", 12 -VS 1 (power) "Negative Supply 1.", 13 OUT 1 (out) "Output 1.", 14 +VS 1 (power) "Positive Supply 1.", 15 ~{PD1} (in) "Power-Down 1. Do not leave floating.", 16 FB1 (out) "Feedback Pin 1."
part B pins: 4 -VS 2 (power) "Negative Supply 2.", 5 OUT 2 (out) "Output 2.", 6 +VS 2 (power) "Positive Supply 2.", 7 ~{PD2} (in) "Power-Down 2. Do not leave floating.", 8 FB2 (out) "Feedback Pin 2.", 9 -IN 2 (in) "Inverting Input 2.", 10 +IN 2 (in) "Noninverting Input 2."
part C pins: 3 NC "No Connect.", 11 NC "No Connect.", 17 EP "Exposed Pad. Can be connected to GND, -VS plane, or left floating."

## ADA4841-1YRJZ-R2
designator U?
Single Channel Low Wide Band Noise Operational Amplifier, 80 MHz BW, 13 V/us SR, Industrial, 6-pin SOT23 (RJ-6), Reel; Generic Part Number: ADA4841-1; Manufacturer: Analog Devices; PartNumber: ADA4841-1YRJZ-R2; Amplifiers Per Package: 1; Input Bias Current: 3uA; Input Offset Voltage: 40uV; Iq/Amp: 1.5mA; Slew Rate: 13V/us; Small Signal Bandwidth: 80MHz; V Span Max: 12V; V Span Min: 2.7V; DatasheetVersion: Rev. E; PackageVersion: 121608-A; PackageReference: RJ-6; PackageDescription: 6-Pin Small Outline Transistor Package, Body 2.9 x 1.6 mm, Pitch 0.95 mm; Supplier 1: Farnell; Supplier Part Number 1: 1838874; Supplier 2: Newark; Supplier Part Number 2: 59K0892; Mounting Technology: Surface Mount; Code_JEDEC: MO-178-AB; ComponentLink1Description: Manufacturer URL; ComponentLink1URL: http://www.analog.com/en/index.html; ComponentLink2Description: Datasheet; ComponentLink2URL: http://www.analog.com/static/imported-files/data_sheets/ADA4841-1_4841-2.pdf; ComponentLink3Description: Package Specification; ComponentLink3URL: http://www.analog.com/static/imported-files/packages/PKG_PDF/SOT-23(RJ)/RJ_6.pdf; ComponentLink4Description: Reference Circuit; ComponentLink4URL: http://www.analog.com/en/all-operational-amplifiers-op-amps/operational-amplifiers-op-amps/ada4841-1/products/product.html#product-recommendations
footprint ADI-RJ-6_N (SOT23, 6-Leads, Body 2.9x1.6mm, Pitch 0.95mm, IPC Medium Density)
footprint ADI-RJ-6_L (SOT23, 6-Leads, Body 2.9x1.6mm, Pitch 0.95mm, IPC High Density)
footprint ADI-RJ-6_M (SOT23, 6-Leads, Body 2.9x1.6mm, Pitch 0.95mm, IPC Low Density)
pins: 1 VOUT (out), 2 -VS (power), 3 +IN (in), 4 -IN (in), 5 ~{POWER DOWN} (in), 6 +VS (power)

## ADA4841-1YRJZ-R7
designator U?
Single Channel Low Wide Band Noise Operational Amplifier, 80 MHz BW, 13 V/us SR, Industrial, 6-pin SOT23 (RJ-6), Reel; Generic Part Number: ADA4841-1; Manufacturer: Analog Devices; PartNumber: ADA4841-1YRJZ-R7; Amplifiers Per Package: 1; Input Bias Current: 3uA; Input Offset Voltage: 40uV; Iq/Amp: 1.5mA; Slew Rate: 13V/us; Small Signal Bandwidth: 80MHz; V Span Max: 12V; V Span Min: 2.7V; DatasheetVersion: Rev. E; PackageVersion: 121608-A; PackageReference: RJ-6; PackageDescription: 6-Pin Small Outline Transistor Package, Body 2.9 x 1.6 mm, Pitch 0.95 mm; Supplier 1: Digi-Key; Supplier Part Number 1: ADA4841-1YRJZ-R7TR-ND; Supplier 2: Digi-Key; Supplier Part Number 2: ADA4841-1YRJZ-R7CT-ND; Supplier 3: Digi-Key; Supplier Part Number 3: ADA4841-1YRJZ-R7DKR-ND; Supplier 4: Newark; Supplier Part Number 4: 59K0893; Mounting Technology: Surface Mount; Code_JEDEC: MO-178-AB; ComponentLink1Description: Manufacturer URL; ComponentLink1URL: http://www.analog.com/en/index.html; ComponentLink2Description: Datasheet; ComponentLink2URL: http://www.analog.com/static/imported-files/data_sheets/ADA4841-1_4841-2.pdf; ComponentLink3Description: Package Specification; ComponentLink3URL: http://www.analog.com/static/imported-files/packages/PKG_PDF/SOT-23(RJ)/RJ_6.pdf; ComponentLink4Description: Reference Circuit; ComponentLink4URL: http://www.analog.com/en/all-operational-amplifiers-op-amps/operational-amplifiers-op-amps/ada4841-1/products/product.html#product-recommendations
footprint ADI-RJ-6_N (SOT23, 6-Leads, Body 2.9x1.6mm, Pitch 0.95mm, IPC Medium Density)
footprint ADI-RJ-6_L (SOT23, 6-Leads, Body 2.9x1.6mm, Pitch 0.95mm, IPC High Density)
footprint ADI-RJ-6_M (SOT23, 6-Leads, Body 2.9x1.6mm, Pitch 0.95mm, IPC Low Density)
pins: 1 VOUT (out), 2 -VS (power), 3 +IN (in), 4 -IN (in), 5 ~{POWER DOWN} (in), 6 +VS (power)

## ADA4841-1YRJZ-RL
designator U?
Single Channel Low Wide Band Noise Operational Amplifier, 80 MHz BW, 13 V/us SR, Industrial, 6-pin SOT23 (RJ-6), Reel; Generic Part Number: ADA4841-1; Manufacturer: Analog Devices; PartNumber: ADA4841-1YRJZ-RL; Amplifiers Per Package: 1; Input Bias Current: 3uA; Input Offset Voltage: 40uV; Iq/Amp: 1.5mA; Slew Rate: 13V/us; Small Signal Bandwidth: 80MHz; V Span Max: 12V; V Span Min: 2.7V; DatasheetVersion: Rev. E; PackageVersion: 121608-A; PackageReference: RJ-6; PackageDescription: 6-Pin Small Outline Transistor Package, Body 2.9 x 1.6 mm, Pitch 0.95 mm; Supplier 1: Digi-Key; Supplier Part Number 1: ADA4841-1YRJZ-RL-ND; Mounting Technology: Surface Mount; Code_JEDEC: MO-178-AB; ComponentLink1Description: Manufacturer URL; ComponentLink1URL: http://www.analog.com/en/index.html; ComponentLink2Description: Datasheet; ComponentLink2URL: http://www.analog.com/static/imported-files/data_sheets/ADA4841-1_4841-2.pdf; ComponentLink3Description: Package Specification; ComponentLink3URL: http://www.analog.com/static/imported-files/packages/PKG_PDF/SOT-23(RJ)/RJ_6.pdf; ComponentLink4Description: Reference Circuit; ComponentLink4URL: http://www.analog.com/en/all-operational-amplifiers-op-amps/operational-amplifiers-op-amps/ada4841-1/products/product.html#product-recommendations
footprint ADI-RJ-6_N (SOT23, 6-Leads, Body 2.9x1.6mm, Pitch 0.95mm, IPC Medium Density)
footprint ADI-RJ-6_L (SOT23, 6-Leads, Body 2.9x1.6mm, Pitch 0.95mm, IPC High Density)
footprint ADI-RJ-6_M (SOT23, 6-Leads, Body 2.9x1.6mm, Pitch 0.95mm, IPC Low Density)
pins: 1 VOUT (out), 2 -VS (power), 3 +IN (in), 4 -IN (in), 5 ~{POWER DOWN} (in), 6 +VS (power)

## ADA4841-1YRZ
designator U?
Single Channel Low Wide Band Noise Operational Amplifier, 80 MHz BW, 13 V/us SR, Industrial, 8-pin SOIC (R-8), Tube; Generic Part Number: ADA4841-1; Manufacturer: Analog Devices; PartNumber: ADA4841-1YRZ; Amplifiers Per Package: 1; Input Bias Current: 3uA; Input Offset Voltage: 40uV; Iq/Amp: 1.5mA; Slew Rate: 13V/us; Small Signal Bandwidth: 80MHz; V Span Max: 12V; V Span Min: 2.7V; DatasheetVersion: Rev. E; PackageVersion: 060506-A; PackageReference: R-8; PackageDescription: 8-Pin Standard Small Outline Package, Body 3.9 x 4.9 mm, Pitch 1.27 mm; Mounting Technology: Surface Mount; Code_JEDEC: MS-012-AA; ComponentLink1Description: Manufacturer URL; ComponentLink1URL: http://www.analog.com/en/index.html; ComponentLink2Description: Datasheet; ComponentLink2URL: http://www.analog.com/static/imported-files/data_sheets/ADA4841-1_4841-2.pdf; ComponentLink3Description: Package Specification; ComponentLink3URL: http://www.analog.com/static/imported-files/packages/PKG_PDF/SOIC_Narrow%20(R)/R_8.pdf; ComponentLink4Description: Reference Circuit; ComponentLink4URL: http://www.analog.com/en/all-operational-amplifiers-op-amps/operational-amplifiers-op-amps/ada4841-1/products/product.html#product-recommendations
footprint ADI-R-8_N (SOIC, 8-Leads, Body 4.9x3.9mm, Pitch 1.27mm, IPC Medium Density)
footprint ADI-R-8_L (SOIC, 8-Leads, Body 4.9x3.9mm, Pitch 1.27mm, IPC High Density)
footprint ADI-R-8_M (SOIC, 8-Leads, Body 4.9x3.9mm, Pitch 1.27mm, IPC Low Density)
pins: 1 NC, 2 -IN (in), 3 +IN (in), 4 -VS (power), 5 NC, 6 VOUT (out), 7 +VS (power), 8 ~{POWER DOWN} (in)

## ADA4841-1YRZ-R7
designator U?
Single Channel Low Wide Band Noise Operational Amplifier, 80 MHz BW, 13 V/us SR, Industrial, 8-pin SOIC (R-8), Reel; Generic Part Number: ADA4841-1; Manufacturer: Analog Devices; PartNumber: ADA4841-1YRZ-R7; Amplifiers Per Package: 1; Input Bias Current: 3uA; Input Offset Voltage: 40uV; Iq/Amp: 1.5mA; Slew Rate: 13V/us; Small Signal Bandwidth: 80MHz; V Span Max: 12V; V Span Min: 2.7V; DatasheetVersion: Rev. E; PackageVersion: 060506-A; PackageReference: R-8; PackageDescription: 8-Pin Standard Small Outline Package, Body 3.9 x 4.9 mm, Pitch 1.27 mm; Supplier 1: Digi-Key; Supplier Part Number 1: ADA4841-1YRZ-R7TR-ND; Supplier 2: Digi-Key; Supplier Part Number 2: ADA4841-1YRZ-R7CT-ND; Supplier 3: Digi-Key; Supplier Part Number 3: ADA4841-1YRZ-R7DKR-ND; Supplier 4: Farnell; Supplier Part Number 4: 1838875; Supplier 5: Farnell; Supplier Part Number 5: 1838875RL; Supplier 6: Newark; Supplier Part Number 6: 59K0896; Mounting Technology: Surface Mount; Code_JEDEC: MS-012-AA; ComponentLink1Description: Manufacturer URL; ComponentLink1URL: http://www.analog.com/en/index.html; ComponentLink2Description: Datasheet; ComponentLink2URL: http://www.analog.com/static/imported-files/data_sheets/ADA4841-1_4841-2.pdf; ComponentLink3Description: Package Specification; ComponentLink3URL: http://www.analog.com/static/imported-files/packages/PKG_PDF/SOIC_Narrow%20(R)/R_8.pdf; ComponentLink4Description: Reference Circuit; ComponentLink4URL: http://www.analog.com/en/all-operational-amplifiers-op-amps/operational-amplifiers-op-amps/ada4841-1/products/product.html#product-recommendations
footprint ADI-R-8_N (SOIC, 8-Leads, Body 4.9x3.9mm, Pitch 1.27mm, IPC Medium Density)
footprint ADI-R-8_L (SOIC, 8-Leads, Body 4.9x3.9mm, Pitch 1.27mm, IPC High Density)
footprint ADI-R-8_M (SOIC, 8-Leads, Body 4.9x3.9mm, Pitch 1.27mm, IPC Low Density)
pins: 1 NC, 2 -IN (in), 3 +IN (in), 4 -VS (power), 5 NC, 6 VOUT (out), 7 +VS (power), 8 ~{POWER DOWN} (in)

## ADA4841-1YRZ-RL
designator U?
Single Channel Low Wide Band Noise Operational Amplifier, 80 MHz BW, 13 V/us SR, Industrial, 8-pin SOIC (R-8), Reel; Generic Part Number: ADA4841-1; Manufacturer: Analog Devices; PartNumber: ADA4841-1YRZ-RL; Amplifiers Per Package: 1; Input Bias Current: 3uA; Input Offset Voltage: 40uV; Iq/Amp: 1.5mA; Slew Rate: 13V/us; Small Signal Bandwidth: 80MHz; V Span Max: 12V; V Span Min: 2.7V; DatasheetVersion: Rev. E; PackageVersion: 060506-A; PackageReference: R-8; PackageDescription: 8-Pin Standard Small Outline Package, Body 3.9 x 4.9 mm, Pitch 1.27 mm; Supplier 1: Digi-Key; Supplier Part Number 1: ADA4841-1YRZ-RL-ND; Mounting Technology: Surface Mount; Code_JEDEC: MS-012-AA; ComponentLink1Description: Manufacturer URL; ComponentLink1URL: http://www.analog.com/en/index.html; ComponentLink2Description: Datasheet; ComponentLink2URL: http://www.analog.com/static/imported-files/data_sheets/ADA4841-1_4841-2.pdf; ComponentLink3Description: Package Specification; ComponentLink3URL: http://www.analog.com/static/imported-files/packages/PKG_PDF/SOIC_Narrow%20(R)/R_8.pdf; ComponentLink4Description: Reference Circuit; ComponentLink4URL: http://www.analog.com/en/all-operational-amplifiers-op-amps/operational-amplifiers-op-amps/ada4841-1/products/product.html#product-recommendations
footprint ADI-R-8_N (SOIC, 8-Leads, Body 4.9x3.9mm, Pitch 1.27mm, IPC Medium Density)
footprint ADI-R-8_L (SOIC, 8-Leads, Body 4.9x3.9mm, Pitch 1.27mm, IPC High Density)
footprint ADI-R-8_M (SOIC, 8-Leads, Body 4.9x3.9mm, Pitch 1.27mm, IPC Low Density)
pins: 1 NC, 2 -IN (in), 3 +IN (in), 4 -VS (power), 5 NC, 6 VOUT (out), 7 +VS (power), 8 ~{POWER DOWN} (in)

## ADA4841-2YCPZ-R2
designator U?
Double Channel Low Wide Band Noise Operational Amplifier, 80 MHz BW, 13 V/us SR, Industrial, 8-pin SON (CP-8-11), Reel; Generic Part Number: ADA4841-2; Manufacturer: Analog Devices; PartNumber: ADA4841-2YCPZ-R2; Amplifiers Per Package: 2; Input Bias Current: 3uA; Input Offset Voltage: 40uV; Iq/Amp: 1.5mA; Slew Rate: 13V/us; Small Signal Bandwidth: 80MHz; V Span Max: 12V; V Span Min: 2.7V; DatasheetVersion: Rev. E; PackageVersion: 01-24-2011-B; PackageReference: CP-8-11; PackageDescription: 8-Pin Lead Frame Chip Scale Package, Body 3 x 3 mm, Pitch 0.5 mm; Supplier 1: Digi-Key; Supplier Part Number 1: ADA4841-2YCPZ-R2CT-ND; Supplier 2: Digi-Key; Supplier Part Number 2: ADA4841-2YCPZ-R2DKR-ND; Mounting Technology: Surface Mount; Code_JEDEC: MO-229-WEED; ComponentLink1Description: Manufacturer URL; ComponentLink1URL: http://www.analog.com/en/index.html; ComponentLink2Description: Datasheet; ComponentLink2URL: http://www.analog.com/static/imported-files/data_sheets/ADA4841-1_4841-2.pdf; ComponentLink3Description: Package Specification; ComponentLink3URL: http://www.analog.com/static/imported-files/packages/PKG_PDF/LFCSP(CP)/CP_8_11.pdf
footprint ADI-CP-8-11_N (SON, 8-Leads, Body 3x3mm, Pitch 0.5mm, Thermal Pad 2.34 x 1.60mm, IPC Medium Density)
footprint ADI-CP-8-11_L (SON, 8-Leads, Body 3x3mm, Pitch 0.5mm, Thermal Pad 2.34 x 1.60mm, IPC High Density)
footprint ADI-CP-8-11_M (SON, 8-Leads, Body 3x3mm, Pitch 0.5mm, Thermal Pad 2.34 x 1.60mm, IPC Low Density)
pins on every part: 4 -VS (power), 8 +VS (power), 9 EP (power)
part A pins: 1 OUT 1 (out), 2 -IN 1 (in), 3 +IN 1 (in)
part B pins: 5 +IN 2 (in), 6 -IN 2 (in), 7 OUT 2 (out)

## ADA4841-2YCPZ-R7
designator U?
Double Channel Low Wide Band Noise Operational Amplifier, 80 MHz BW, 13 V/us SR, Industrial, 8-pin SON (CP-8-11), Reel; Generic Part Number: ADA4841-2; Manufacturer: Analog Devices; PartNumber: ADA4841-2YCPZ-R7; Amplifiers Per Package: 2; Input Bias Current: 3uA; Input Offset Voltage: 40uV; Iq/Amp: 1.5mA; Slew Rate: 13V/us; Small Signal Bandwidth: 80MHz; V Span Max: 12V; V Span Min: 2.7V; DatasheetVersion: Rev. E; PackageVersion: 01-24-2011-B; PackageReference: CP-8-11; PackageDescription: 8-Pin Lead Frame Chip Scale Package, Body 3 x 3 mm, Pitch 0.5 mm; Supplier 1: Digi-Key; Supplier Part Number 1: ADA4841-2YCPZ-R7TR-ND; Supplier 2: Digi-Key; Supplier Part Number 2: ADA4841-2YCPZ-R7CT-ND; Supplier 3: Digi-Key; Supplier Part Number 3: ADA4841-2YCPZ-R7DKR-ND; Supplier 4: Newark; Supplier Part Number 4: 45W7012; Mounting Technology: Surface Mount; Code_JEDEC: MO-229-WEED; ComponentLink1Description: Manufacturer URL; ComponentLink1URL: http://www.analog.com/en/index.html; ComponentLink2Description: Datasheet; ComponentLink2URL: http://www.analog.com/static/imported-files/data_sheets/ADA4841-1_4841-2.pdf; ComponentLink3Description: Package Specification; ComponentLink3URL: http://www.analog.com/static/imported-files/packages/PKG_PDF/LFCSP(CP)/CP_8_11.pdf
footprint ADI-CP-8-11_N (SON, 8-Leads, Body 3x3mm, Pitch 0.5mm, Thermal Pad 2.34 x 1.60mm, IPC Medium Density)
footprint ADI-CP-8-11_L (SON, 8-Leads, Body 3x3mm, Pitch 0.5mm, Thermal Pad 2.34 x 1.60mm, IPC High Density)
footprint ADI-CP-8-11_M (SON, 8-Leads, Body 3x3mm, Pitch 0.5mm, Thermal Pad 2.34 x 1.60mm, IPC Low Density)
pins on every part: 4 -VS (power), 8 +VS (power), 9 EP (power)
part A pins: 1 OUT 1 (out), 2 -IN 1 (in), 3 +IN 1 (in)
part B pins: 5 +IN 2 (in), 6 -IN 2 (in), 7 OUT 2 (out)